# EAGLE library part LMH1981 (library SKAARHOJ)
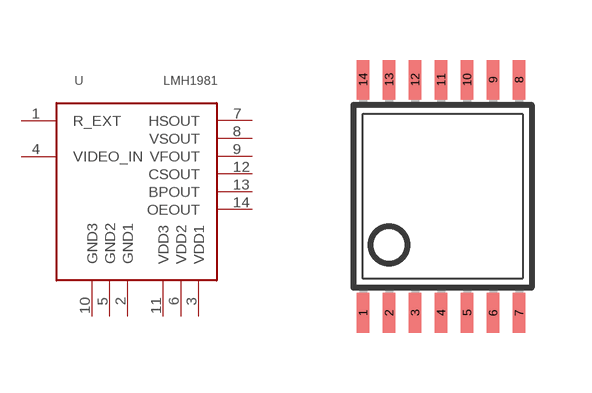
[diagram p40: symbol with the pads of TSSOP14; footprint TSSOP14]

Designator prefix -

## LMH1981  [TSSOP14]
1  R_EXT  in
2  GND1  pwr
3  VDD1  pwr
4  VIDEO_IN  in
5  GND2  pwr
6  VDD2  pwr
7  HSOUT  out
8  VSOUT  out
9  VFOUT  out
10  GND3  pwr
11  VDD3  pwr
12  CSOUT  out
13  BPOUT  out
14  OEOUT  out

## Footprint TSSOP14 (pad centres in mm)
smd 0.305 x 0.991: 1 -2.305,-2.918; 2 -1.655,-2.918; 3 -1.005,-2.918; 4 -0.355,-2.918; 5 0.295,-2.918; 6 0.945,-2.918; 7 1.595,-2.918; 8 1.595,2.918; 9 0.945,2.918; 10 0.295,2.918; 11 -0.355,2.918; 12 -1.005,2.918; 13 -1.655,2.918; 14 -2.305,2.918